# Altium footprint library Библиотека_посадочных_мест.PcbLib: 25 footprints (part 2 of 2)
Each footprint in its own frame and in the unit in brackets; x right, y up, seen from the top. Pads: shape width x height; smd on the part's side, far side on the other; paste and mask are expansions set on the pad; w line width, h text height; cw(c..) or ccw(c..) is an arc to the next point about the centre after c.
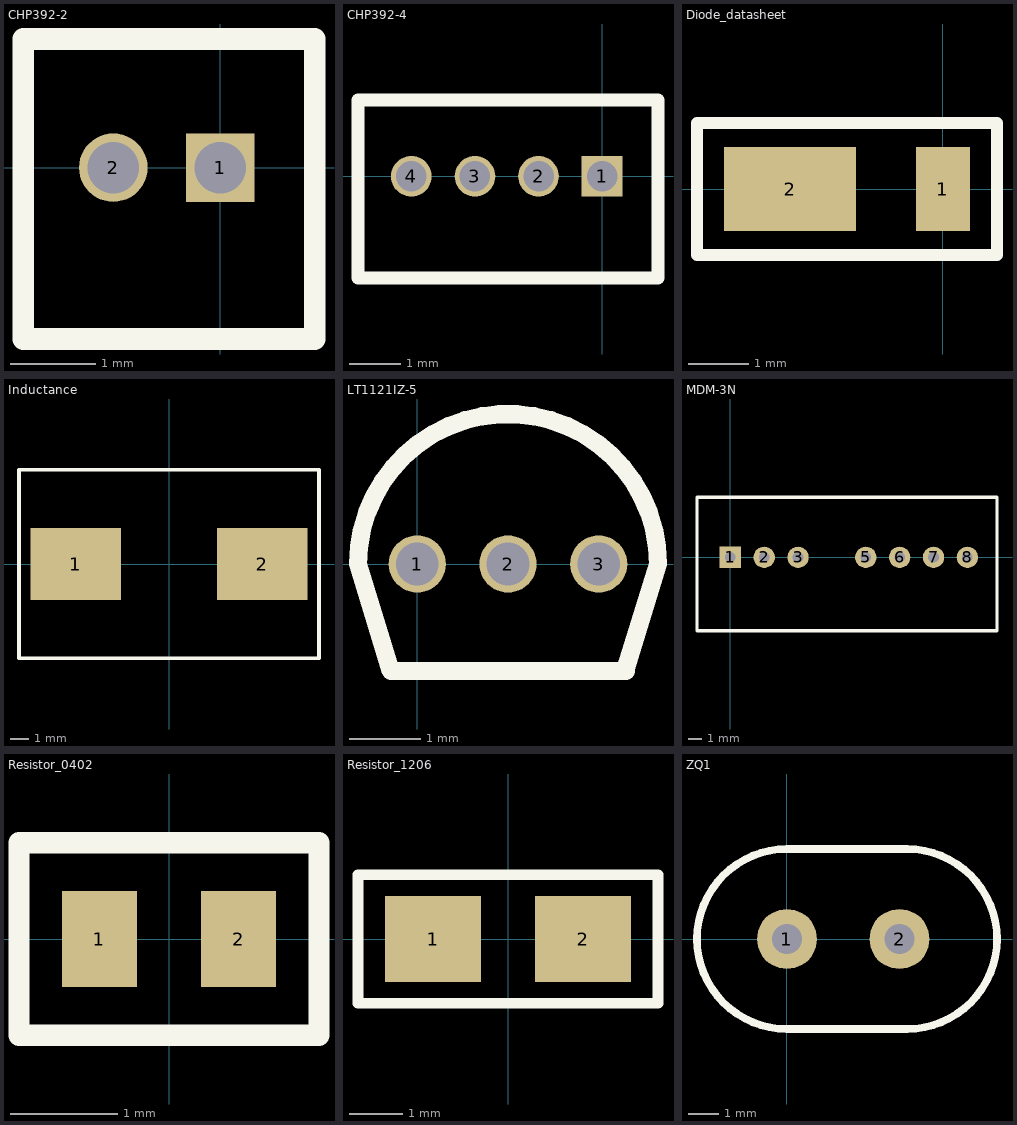
[diagram p1: the footprints below, top view; thin cyan lines are the x and y axes]

## CHP392-2 [mm] "СНП392-2-управление"
pads (2):
  rect 0.8x0.8 hole 0.6: 1(0,0)
  round 0.8 hole 0.6: 2(-1.25,0)
Top Overlay:
  lines w0.254: -2.3,-2 1.1,-2 1.1,1.5 -2.3,1.5 -2.3,-2

## CHP392-4 [mm] "СНП392-питание"
pads (4):
  rect 0.8x0.8 hole 0.6: 1(0,0)
  round 0.8 hole 0.6: 2(-1.25,0) 3(-2.5,0) 4(-3.75,0)
Top Overlay:
  lines w0.254: -4.8,-2 1.1,-2 1.1,1.5 -4.8,1.5 -4.8,-2

## Diode_datasheet [mm]
pads (2):
  rect 0.9x1.4 smd: 1(0,0)
  rect 2.2x1.4 smd: 2(-2.55,0)
Top Overlay:
  lines w0.2: -4.1,-1.1 -4.1,0 -4.1,1.1 0.9,1.1 0.9,-1.1 -4.1,-1.1

## Inductance [mm]
pads (2):
  rect 4.8x3.8 smd: 1(-4.95,0) 2(4.95,0)
Top Overlay:
  lines w0.2: -7.95,-5 -7.95,0 -7.95,5 7.95,5 7.95,-5 -7.95,-5

## LT1121IZ-5 [mm] "Стабилизатор апряжения"
pads (3):
  round 0.8 hole 0.6: 1(0,0) 2(1.27,0) 3(2.54,0)
Top Overlay:
  lines w0.254: 2.921,-1.5 -0.369,-1.5 -0.83,0 cw(c1.27,0) 3.37,0 2.921,-1.463

## MDM-3N [mm]
pads (7):
  rect 1.6x1.6 hole 0.8: 1(0,0)
  round 1.6 hole 0.8: 2(2.54,0) 3(5.08,0) 5(10.16,0) 6(12.7,0) 7(15.24,0) 8(17.78,0)
Top Overlay:
  lines w0.254: -2.5,-5.5 20,-5.5 20,4.5 -2.5,4.5 -2.5,-5.5

## Resistor_0402 [mm] "R=120 Ом"
pads (2):
  rect 0.7x0.9 smd: 1(-0.65,0) 2(0.65,0)
Top Overlay:
  lines w0.2: -1.4,-0.9 1.4,-0.9 1.4,0.9 -1.4,0.9 -1.4,-0.2 -1.4,-0.9

## Resistor_1206 [mm] "R= 68 мОм"
pads (2):
  rect 1.8x1.6 smd: 1(-1.4,0) 2(1.4,0)
Top Overlay:
  lines w0.2: -2.8,-1.2 -2.8,-0.1 -2.8,1.2 2.8,1.2 2.8,-1.2 -2.8,-1.2

## ZQ1 [mm] "Кварцевый резонатор"
pads (2):
  round 2 hole 1: 1(0,0) 2(3.75,0)
Top Overlay:
  lines w0.254: 0,-3 cw(c0,0) 0,3 4,3 cw(c4,0) 4,-3 0,-3